# Altium footprint library drvs-motor.PcbLib: 70 footprints (part 4 of 5)
Each footprint in its own frame and in the unit in brackets; x right, y up, seen from the top. Pads: shape width x height; smd on the part's side, far side on the other; paste and mask are expansions set on the pad; w line width, h text height; cw(c..) or ccw(c..) is an arc to the next point about the centre after c.
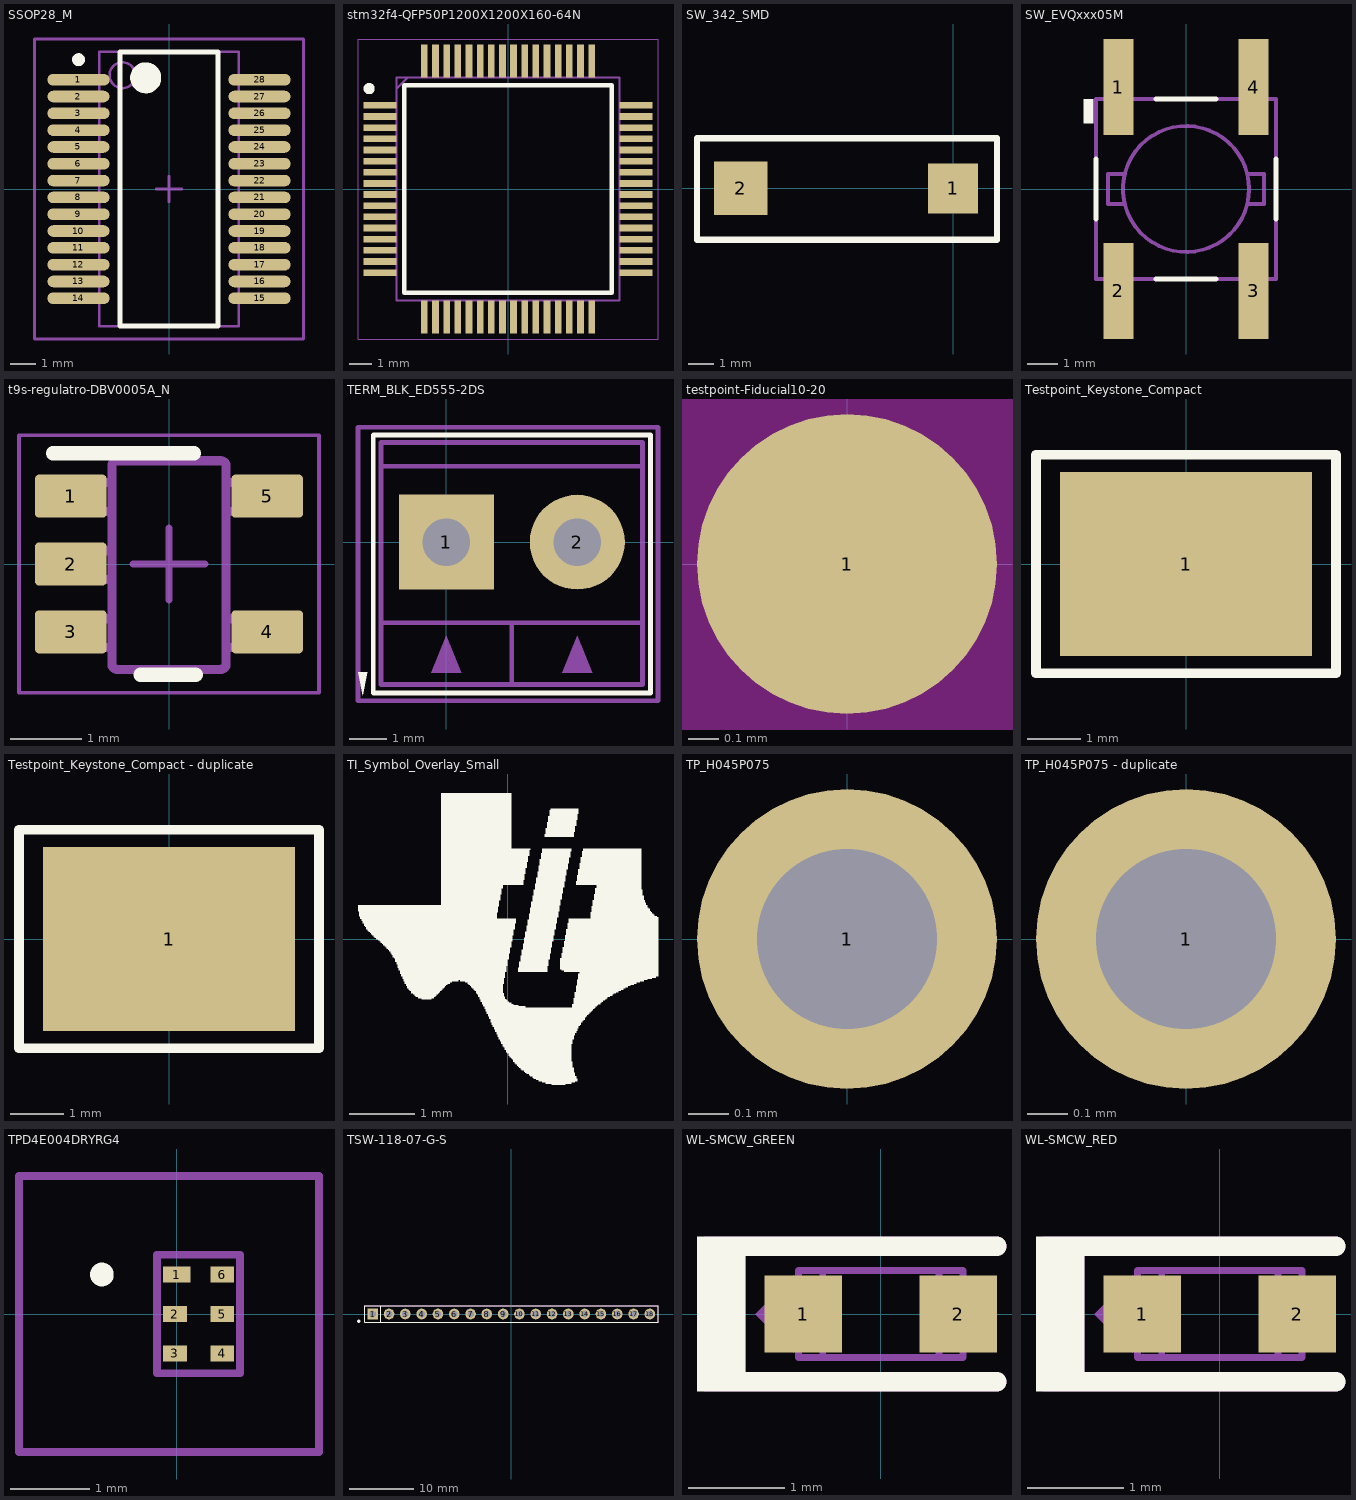
[diagram p3: the footprints below, top view; thin cyan lines are the x and y axes]

## SSOP28_M [mm]
pads (28):
  oval 2.4x0.45 smd: 1(-3.5,4.225) 2(-3.5,3.575) 3(-3.5,2.925) 4(-3.5,2.275) 5(-3.5,1.625) 6(-3.5,0.975) 7(-3.5,0.325) 8(-3.5,-0.325) 9(-3.5,-0.975) 10(-3.5,-1.625) 11(-3.5,-2.275) 12(-3.5,-2.925) 13(-3.5,-3.575) 14(-3.5,-4.225) 15(3.5,-4.225) 16(3.5,-3.575) 17(3.5,-2.925) 18(3.5,-2.275) 19(3.5,-1.625) 20(3.5,-0.975) 21(3.5,-0.325) 22(3.5,0.325) 23(3.5,0.975) 24(3.5,1.625) 25(3.5,2.275) 26(3.5,2.925) 27(3.5,3.575) 28(3.5,4.225)
Top Overlay:
  circle w0.6: c-0.9,4.3 r0.3
  circle w0.25: c-3.5,5 r0.125
  lines w0.2: -1.9,-5.3 1.9,-5.3 1.9,5.3 -1.9,5.3 -1.9,-5.3
Mechanical 5:
  circle w0.1: c-1.8,4.4 r0.5
  lines w0.1: -2.7,-5.3 2.7,-5.3 2.7,5.3 -2.7,5.3 -2.7,-5.3
  text ".Designator" at -1.524,-0.508 h1.02
Mechanical 15:
  lines w0.1: -0.5,0 0.5,0 ; 0,-0.5 0,0.5 ; -5.2,-5.8 5.2,-5.8 5.2,5.8 -5.2,5.8 -5.2,-5.8
3D body: height 2, standoff 0, extent -2.7,-5.3 2.7,5.3

## stm32f4-QFP50P1200X1200X160-64N [mm]
pads (64):
  rect 1.475x0.3 smd: 1(-5.738,3.75) 2(-5.738,3.25) 3(-5.738,2.75) 4(-5.738,2.25) 5(-5.738,1.75) 6(-5.738,1.25) 7(-5.738,0.75) 8(-5.738,0.25) 9(-5.738,-0.25) 10(-5.738,-0.75) 11(-5.738,-1.25) 12(-5.738,-1.75) 13(-5.738,-2.25) 14(-5.738,-2.75) 15(-5.738,-3.25) 16(-5.738,-3.75) 33(5.738,-3.75) 34(5.738,-3.25) 35(5.738,-2.75) 36(5.738,-2.25) 37(5.738,-1.75) 38(5.738,-1.25) 39(5.738,-0.75) 40(5.738,-0.25) 41(5.738,0.25) 42(5.738,0.75) 43(5.738,1.25) 44(5.738,1.75) 45(5.738,2.25) 46(5.738,2.75) 47(5.738,3.25) 48(5.738,3.75)
  rect 0.3x1.475 smd: 17(-3.75,-5.738) 18(-3.25,-5.738) 19(-2.75,-5.738) 20(-2.25,-5.738) 21(-1.75,-5.738) 22(-1.25,-5.738) 23(-0.75,-5.738) 24(-0.25,-5.738) 25(0.25,-5.738) 26(0.75,-5.738) 27(1.25,-5.738) 28(1.75,-5.738) 29(2.25,-5.738) 30(2.75,-5.738) 31(3.25,-5.738) 32(3.75,-5.738) 49(3.75,5.738) 50(3.25,5.738) 51(2.75,5.738) 52(2.25,5.738) 53(1.75,5.738) 54(1.25,5.738) 55(0.75,5.738) 56(0.25,5.738) 57(-0.25,5.738) 58(-0.75,5.738) 59(-1.25,5.738) 60(-1.75,5.738) 61(-2.25,5.738) 62(-2.75,5.738) 63(-3.25,5.738) 64(-3.75,5.738)
Top Overlay:
  circle w0.25: c-6.225,4.5 r0.125
  lines w0.2: -4.65,-4.65 -4.65,4.65 4.65,4.65 4.65,-4.65 -4.65,-4.65
Mechanical 13:
  lines w0.1: -5,4.5 -4.5,5 ; -5,-5 -5,5 5,5 5,-5 -5,-5
Mechanical 15:
  lines w0.05: -6.725,-6.725 -6.725,6.725 6.725,6.725 6.725,-6.725 -6.725,-6.725
3D body "STM32F405RGT6.stp": height 1.6, standoff 0, extent -6,-6 6,6

## SW_342_SMD [mm] "CASE: SMD"
height 2.5
pads (2):
  rect 2x2 smd: 1(0,0)
  rect 2.15x2.15 smd: 2(-8.5,0)
Top Overlay:
  lines w0.254: -10.25,-2.057 1.75,-2.057 1.75,2 -10.25,2 -10.25,-2.057
3D body: height 2.4, standoff 0.1, extent -7.171,-1.793 -1.171,1.707

## SW_EVQxxx05M [mm]
pads (4):
  rect 1x3.2 smd: 1(-2.25,3.4) 2(-2.25,-3.4) 3(2.25,-3.4) 4(2.25,3.4)
Top Overlay:
  region: -3.4,3 -3.1,3 -3.1,2.2 -3.4,2.2
  lines w0.178: -3,-1 -3,1 ; -1,-3 1,-3 ; -1,3 1,3 ; 3,-1 3,1
Mechanical 5:
  circle w0.127: c0,0 r2.102
  lines w0.127: -2.075,-0.5 -2.6,-0.5 -2.6,0.5 -2.025,0.5 ; 2.05,0.5 2.6,0.5 2.6,-0.5 2.075,-0.5 ; -3,-3 -3,3 3,3 3,-3 -3,-3
  text ".Designator" at -1.425,-0.35 h0.76
3D body: height 3.5, standoff 0, extent -3,-3 3,3
3D body: height 5, standoff 3.5, extent -2.102,-2.102 2.102,2.102

## t9s-regulatro-DBV0005A_N [mm]
pads (5):
  rrect17% 1x0.6 smd: 1(-1.375,0.95) 2(-1.375,0) 3(-1.375,-0.95) 4(1.375,-0.95) 5(1.375,0.95)
Top Overlay:
  lines w0.2: -1.625,1.55 0.35,1.55 ; -0.4,-1.55 0.375,-1.55
Mechanical 5:
  lines w0.127: -0.801,1.371 cw(c-0.725,1.37) -0.725,1.446 ; -0.801,1.37 -0.801,-1.399 -0.801,-1.4 ccw(c-0.725,-1.399) -0.725,-1.475 ; -0.801,1.37 -0.801,1.371 ; -0.725,-1.475 -0.725,-1.475 ; -0.725,-1.475 0.723,-1.475 0.724,-1.475 ccw(c0.723,-1.399) 0.799,-1.4 0.799,-1.399 0.799,1.37 ; -0.725,1.446 0.723,1.446 0.724,1.446 cw(c0.723,1.37) 0.799,1.371 ; -0.725,1.446 -0.725,1.446 ; 0.799,1.37 0.799,1.371 ; -1.423,-1.167 -1.199,-1.167 -1.105,-1.167 -1.088,-1.167 -0.835,-1.167 -0.801,-1.167 -0.801,-0.767 -0.835,-0.767 -1.088,-0.767 -1.105,-0.767 -1.199,-0.767 -1.423,-0.767 -1.423,-1.167 ; -1.423,-0.215 -1.199,-0.215 -1.105,-0.215 -1.088,-0.215 -0.835,-0.215 -0.801,-0.215 -0.801,0.186 -0.835,0.186 -1.088,0.186 -1.105,0.186 -1.199,0.186 -1.423,0.186 -1.423,-0.215 ; -1.423,0.738 -1.199,0.738 -1.105,0.738 -1.088,0.738 -0.835,0.738 -0.801,0.738 -0.801,1.138 -0.835,1.138 -1.088,1.138 -1.105,1.138 -1.199,1.138 -1.423,1.138 -1.423,0.738 ; 0.799,-1.167 0.799,-0.767 0.834,-0.767 1.087,-0.767 1.103,-0.767 1.198,-0.767 1.422,-0.767 1.422,-1.167 1.198,-1.167 1.103,-1.167 1.087,-1.167 0.834,-1.167 0.799,-1.167 ; 0.799,0.738 0.799,1.138 0.834,1.138 1.087,1.138 1.103,1.138 1.198,1.138 1.422,1.138 1.422,0.738 1.198,0.738 1.103,0.738 1.087,0.738 0.834,0.738 0.799,0.738
  text ".Designator" at -0.25,0.95 h0.51
Mechanical 15:
  lines w0.05: -2.1,-1.8 2.1,-1.8 2.1,1.8 -2.1,1.8 -2.1,-1.8
  lines w0.1: -0.5,0 0.5,0 ; 0,-0.5 0,0.5
3D body "DBV0005A.stp": height 1.09, standoff 0, extent -1.422,-1.461 1.423,1.46

## TERM_BLK_ED555-2DS [mil]
pads (2):
  rect 100x100 hole 50: 1(0,0)
  round 100 hole 50: 2(138,0)
Top Overlay:
  region: -88,-161 -83,-137 -93,-137
  lines w5: -77,-159 -77,113 215,113 215,-159 -77,-159
Mechanical 5:
  region: 15.75,-137.8 -15.75,-137.8 0,-98.43
  region: 153.54,-137.8 122.05,-137.8 137.8,-98.43
  lines w5: -68.9,-85 206.69,-85 ; -68.9,80 206.69,80 ; 68.9,-150.2 68.9,-85 ; -68.9,-150 -68.9,105 206.69,105 206.69,-150 -68.9,-150
  text ".Designator" at -23.62,-23.62 h40
Mechanical 15:
  lines w5: -93,-167 223,-167 223,121 -93,121 -93,-167
3D body "On-Shore_ED555_2DS.stp": height 323.43, standoff -137.2, extent -68.7,-149.61 206.89,106.29

## testpoint-Fiducial10-20 [mm]
pads (1):
  round 1 smd mask+0.5: 1(0,0)
Top Layer keep-out:
  circle w1.178: c0,0 r0.5

## Testpoint_Keystone_Compact [mil]
pads (1):
  rect 185x135 smd: 1(0,0)
Top Overlay:
  lines w7: -110,-80 -110,-70 -110,70 -110,80 -100,80 -30,80 110,80 110,-80 -100,-80 -110,-80
Mechanical 5:
  lines w5: -65.33,-22.51 -63.43,-23.14 ; -63.92,21.31 -54.27,57.33 63.59,25.75 ; -63.09,21.31 -74.92,21.31 -74.92,-18.69 -75,-20 -74.85,-20.08 -63.43,-23.14 ; 63.25,-18.69 75.08,-18.69 75.08,21.31 75.16,22.61 75.01,22.69 63.59,25.75 ; 64.08,-18.69 54.43,-54.72 -63.43,-23.14 ; 65.49,25.13 63.59,25.75
  text ".Designator" at -55,-5 h30
3D body "keystone_5016.stp": height 90.6, standoff 0.6, extent -75.08,-56.03 75.08,56.03

## Testpoint_Keystone_Compact - duplicate [mil]
pads (1):
  rect 185x135 smd: 1(0,0)
Top Overlay:
  lines w7: -110,-80 -110,-70 -110,70 -110,80 -100,80 -30,80 110,80 110,-80 -100,-80 -110,-80
Mechanical 5:
  lines w5: -65.33,-22.51 -63.43,-23.14 ; -63.92,21.31 -54.27,57.33 63.59,25.75 ; -63.09,21.31 -74.92,21.31 -74.92,-18.69 -75,-20 -74.85,-20.08 -63.43,-23.14 ; 63.25,-18.69 75.08,-18.69 75.08,21.31 75.16,22.61 75.01,22.69 63.59,25.75 ; 64.08,-18.69 54.43,-54.72 -63.43,-23.14 ; 65.49,25.13 63.59,25.75
  text ".Designator" at -55,-5 h30
3D body "keystone_5016.stp": height 90.6, standoff 0.6, extent -75.08,-56.03 75.08,56.03

## TI_Symbol_Overlay_Small [mm]
Top Overlay:
  drawing of 3 lines, arcs and shapes, not listed

## TP_H045P075 [mm]
pads (1):
  round 0.75 hole 0.45: 1(0,0)

## TP_H045P075 - duplicate [mm]
pads (1):
  round 0.75 hole 0.45: 1(0,0)

## TPD4E004DRYRG4 [mm]
pads (6):
  rect 0.35x0.2 smd: 1(0,0.5)
  rect 0.3x0.2 smd: 2(-0.025,0) 3(-0.025,-0.5) 4(0.575,-0.5) 5(0.575,0) 6(0.575,0.5)
Top Overlay:
  lines w0.2: -1,0.5 ccw(c-0.95,0.5) -0.9,0.5 ; -1,0.5 cw(c-0.95,0.5) -0.9,0.5 ; -1,0.5 ccw(c-0.95,0.5) -0.9,0.5
Mechanical 13:
  lines w0.1: -0.25,-0.75 -0.25,0.75 0.8,0.75 0.8,-0.75 -0.25,-0.75
Mechanical 15:
  lines w0.1: -2,-1.75 -2,1.75 1.8,1.75 1.8,-1.75 -2,-1.75
3D body "TPD4E004DRYRG4.stp": height 0.7, standoff 0, extent -0.25,-0.75 0.8,0.75

## TSW-118-07-G-S [mm]
pads (18):
  rect 1.65x1.65 hole 1.016 mask+0: 1(-21.59,0)
  round 1.65 hole 1.016 mask+0: 2(-19.05,0) 3(-16.51,0) 4(-13.97,0) 5(-11.43,0) 6(-8.89,0) 7(-6.35,0) 8(-3.81,0) 9(-1.27,0) 10(1.27,0) 11(3.81,0) 12(6.35,0) 13(8.89,0) 14(11.43,0) 15(13.97,0) 16(16.51,0) 17(19.05,0) 18(21.59,0)
Top Overlay:
  circle w0.25: c-23.76,-1.13 r0.125
  lines w0.178: -20.32,-1.27 -20.32,1.27 ; -22.86,-1.27 22.86,-1.27 22.86,1.27 -22.86,1.27 -22.86,-1.27
Mechanical 5:
  rectangle: -22.098,-0.508 -21.082,0.508
  lines w0.127: -22.86,-1.27 -22.86,1.27 22.86,1.27 22.86,-1.27 -22.86,-1.27
  text ".Designator" at -1.524,-0.508 h1.02
3D body "SamtecTSW-07_18x1.stp": height 8.38, standoff -2.54, extent -22.86,-1.27 22.86,1.27

## WL-SMCW_GREEN [mm]
pads (2):
  rect 0.8x0.8 smd: 1(-0.8,0) 2(0.8,0)
Top Overlay:
  rectangle: -1.9,-0.8 -1.4,0.8
  lines w0.2: -1.6,-0.7 1.2,-0.7 ; -1.6,0.7 1.2,0.7
Mechanical 5:
  region: -0.9,-0.4 -0.9,0.4 -1.3,0
  lines w0.2: -1.65,-0.7 -1.65,0.55 ; 1.2,-0.7 -1.5,-0.7 ; 1.2,0.7 -1.5,0.7 ; -1.5,-0.7 -1.5,0.7 ; -1.5,-0.7 -1.8,-0.7 -1.8,0.7 -1.5,0.7
  text ".Designator" at -0.8,-0.3 h0.45
Mechanical 13:
  lines w0.07: -0.6,-0.45 -0.6,0.45 ; 0.6,-0.45 0.6,0.45 ; -0.85,-0.45 -0.85,0.45 0.85,0.45 0.85,-0.45 -0.85,-0.45
3D body: height 0.35, standoff 0, extent -0.849,-0.449 -0.601,0.449
3D body: height 0.35, standoff 0, extent -0.599,-0.449 0.599,0.449
3D body: height 0.35, standoff 0, extent 0.601,-0.449 0.849,0.449
3D body: height 0.8, standoff 0.35, extent -0.599,-0.449 0.599,0.449

## WL-SMCW_RED [mm]
pads (2):
  rect 0.8x0.8 smd: 1(-0.8,0) 2(0.8,0)
Top Overlay:
  rectangle: -1.9,-0.8 -1.4,0.8
  lines w0.2: -1.6,-0.7 1.2,-0.7 ; -1.6,0.7 1.2,0.7
Mechanical 5:
  region: -0.9,-0.4 -0.9,0.4 -1.3,0
  lines w0.2: -1.65,-0.7 -1.65,0.55 ; 1.2,-0.7 -1.5,-0.7 ; 1.2,0.7 -1.5,0.7 ; -1.5,-0.7 -1.5,0.7 ; -1.5,-0.7 -1.8,-0.7 -1.8,0.7 -1.5,0.7
  text ".Designator" at -0.8,-0.3 h0.45
Mechanical 13:
  lines w0.07: -0.6,-0.45 -0.6,0.45 ; 0.6,-0.45 0.6,0.45 ; -0.85,-0.45 -0.85,0.45 0.85,0.45 0.85,-0.45 -0.85,-0.45
3D body: height 0.35, standoff 0, extent -0.849,-0.449 -0.601,0.449
3D body: height 0.35, standoff 0, extent -0.599,-0.449 0.599,0.449
3D body: height 0.35, standoff 0, extent 0.601,-0.449 0.849,0.449
3D body: height 0.8, standoff 0.35, extent -0.599,-0.449 0.599,0.449